# Altium schematic symbol library DaughterBoard.SchLib: 84 symbols (part 1 of 2)
Pins are listed as number, name and electrical type; pins without a type are passive.

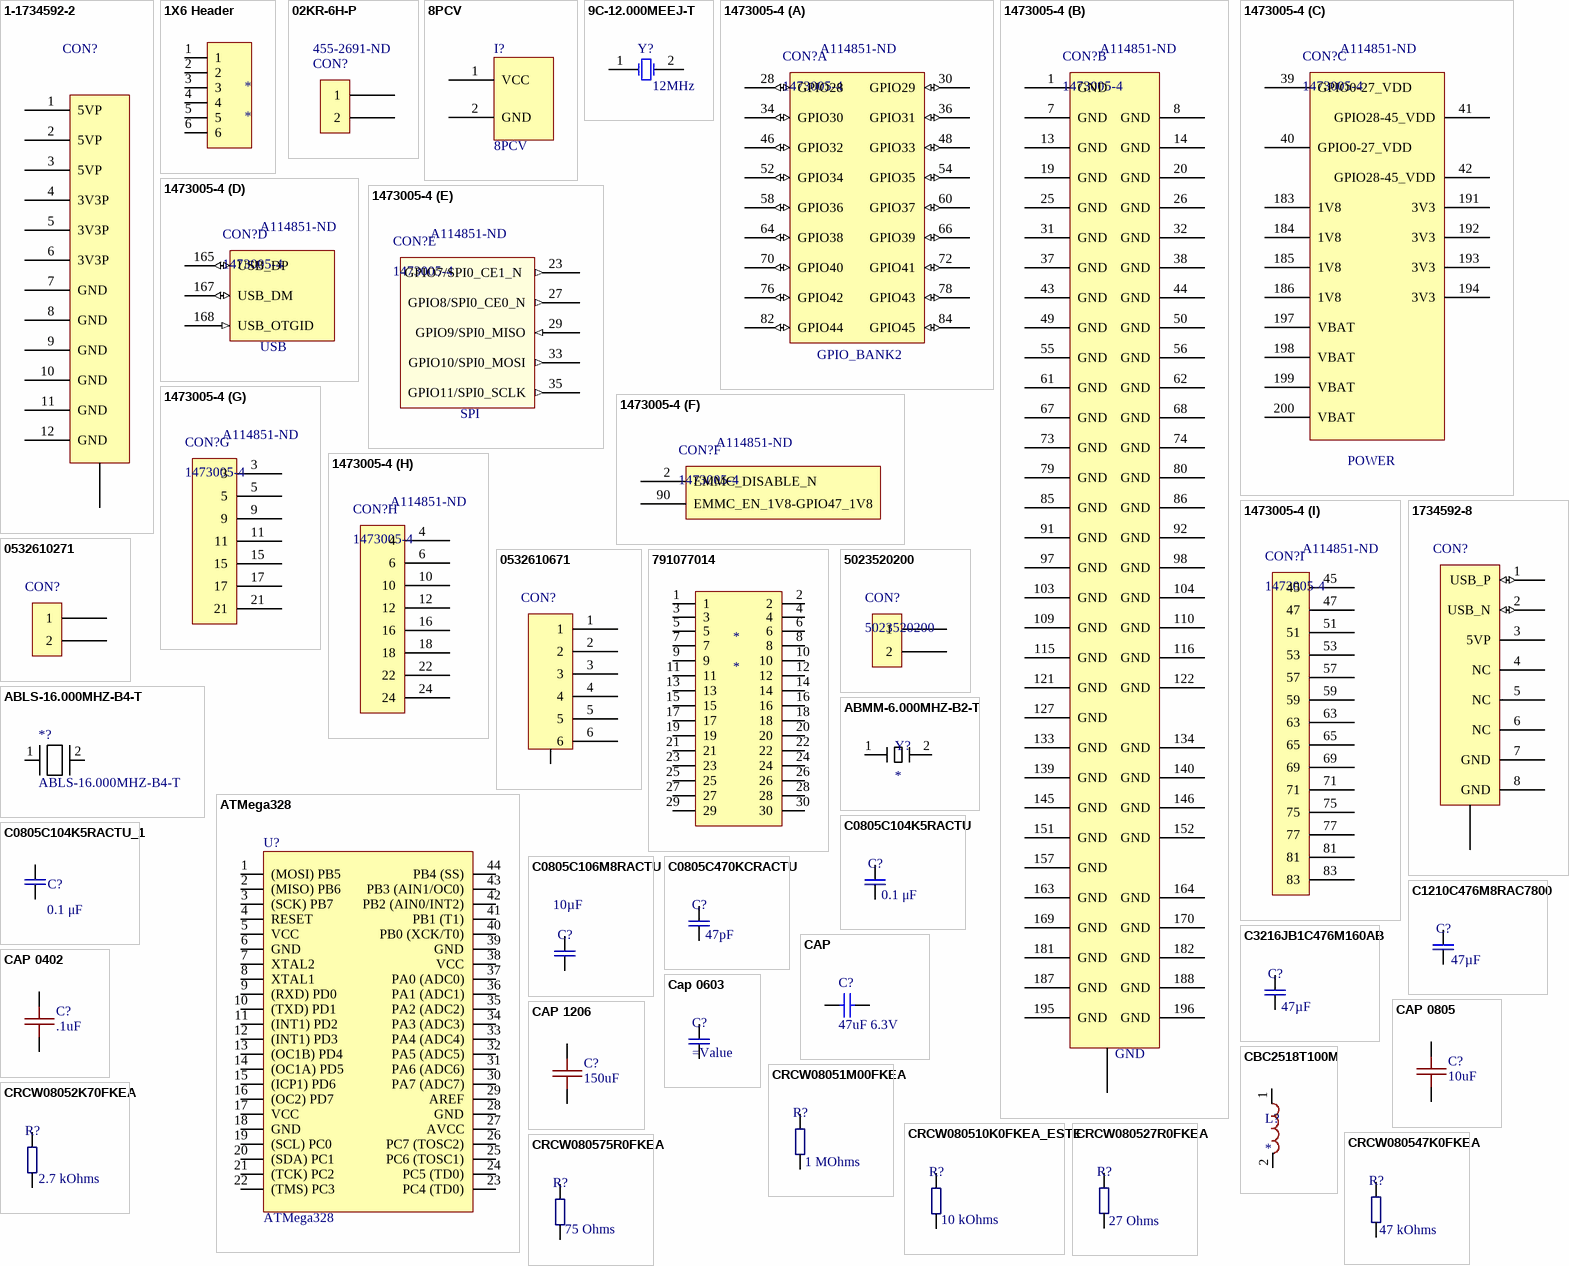
[diagram p0: symbols 1-1734592-2 to CRCW080575R0FKEA]

## 1-1734592-2
designator CON?, comment el connector no está en la lista de suppliers en cantidades unitarias pero Digikey lo tiene  (value not drawn)
Power connector; Supplier Part Number 1: ​A100283CT-ND; Supplier 1: Digikey
footprint 1-1734592-2 (FPC-style ribbon connector)
pins: 1 5VP (power), 2 5VP (power), 3 5VP (power), 4 3V3P (power), 5 3V3P (power), 6 3V3P (power), 7 GND (power), 8 GND (power), 9 GND (power), 10 GND (power), 11 GND (power), 12 GND (power), GND (power)

## 1X6 Header
designator *
footprint 1X6 HEADER
pins: 1, 2, 3, 4, 5, 6

## 02KR-6H-P
designator CON?  Supplier Part Number 1: 455-2691-ND
2 Position Rectangular Socket Connector IDC Tin 26 AWG; Manufacturer: JST; Manufacturer Part Number: 02KR-6H-P; Number of Positions: 2; Pitch: 0.079" (2.00mm); Wire Type: Discrete; Wire Gauge: 26 AWG; Dynamic Catalog: KR Series; Mating Products: 455-2872-6-ND / - CONN HEADER PH TOP 2POS 2MM SMD / 455-2872-1-ND / - CONN HEADER PH TOP 2POS 2MM SMD / B2B-PH-SM4-K-TBT(LF)(SN)(P)-ND / - CONN HEADER PH TOP 2POS 2MM SMD / 455-2872-2-ND / - CONN HEADER PH TOP 2POS 2MM SMD / 455-1749-6-ND / - CONN HEADER PH SIDE 2POS 2MM SMD / 455-1734-6-ND / - CONN HEADER PH TOP 2POS 2MM SMD / 455-1749-1-ND / - CONN HEADER PH SIDE 2POS 2MM SMD / 455-1734-1-ND / - CONN HEADER PH TOP 2POS 2MM SMD / 455-1749-2-ND / - CONN HEADER PH SIDE 2POS 2MM SMD / 455-1734-2-ND / - CONN HEADER P; Other Names: 455-2691; Supplier 1: Digi-Key; Stock 1: 28045; Pricing 1: 1=0.27, 10=0.252, 25=0.216, 50=0.1838, 100=0.1765, 250=0.1585, 500=0.1513, 1000=0.1261, 2500=0.1153 (USD); Standard Package: 2,000; Category: Connectors, Interconnects; Family: Rectangular Connectors - Free Hanging, Panel Mount; Series: KR; Connector Type: Socket; Contact Type: Female Socket; Number of Rows: 1; Mounting Type: Free Hanging (In-Line); Cable Termination: IDC; Contact Finish: Tin; Color: Gray; Packaging: Bulk; ComponentLink1URL: https://datasheet.ciiva.com/701/ekr-701834.pdf; ComponentLink1Description: https://datasheet.ciiva.com/701/ekr-701834.pdf; ComponentLink2URL: https://datasheet.ciiva.com/16300/02kr-6h-p-16300186.pdf; ComponentLink2Description: https://datasheet.ciiva.com/16300/02kr-6h-p-16300186.pdf
footprint 02KR-6H-P (2 Position Rectangular Socket Connector IDC Tin 26 AWG)
pins: 1, 2

## 8PCV
designator I?
footprint 8PCV-02-006
pins: 1 VCC, 2 GND

## 9C-12.000MEEJ-T
designator Y?, comment Frequency: 12MHz  (hidden comment: 12MHz XTAL)
Surface mount 12MHz +/-10ppm Crystal Oscillator; Manufacturer: TXC; Manufacturer Part Number: 9C-12.000MEEJ-T; Catalog Drawings: 9C Series Side 1 / 9C Series Side 2 / 9C Series Bottom; Frequency Stability: ±10ppm; Load Capacitance: 18pF; ESR (Equivalent Series Resistance): 40 Ohm; Operating Mode: Fundamental; Dynamic Catalog: 9C Series; Other Names: 887-1268-2; Published: 8-Jun-2000; LatestRevisionDate: 17-Jul-2002; LatestRevisionNote: Re-released for DXP Platform.; PackageReference: R38; Publisher: Altium Limited; PackageDescription: Crystal, Thru-Hole; 2 Leads; Body 3.1 x 8.2 mm (Dia.xH); Supplier 1: Digikey; Stock 1: 2052; Pricing 1: 1=0.59, 10=0.495, 50=0.4456, 100=0.396, 500=0.3762 (USD); Standard Package: 1,000; Category: Crystals and Oscillators; Family: Crystals; Series: 9C; Type: MHz Crystal; Frequency Tolerance: ±10ppm; Operating Temperature: -20°C ~ 70°C; Mounting Type: Surface Mount; Package / Case: HC49/US; Size / Dimension: 0.449" L x 0.189" W (11.40mm x 4.80mm); Height: 0.161" (4.10mm); Packaging: Tape & Reel (TR); ComponentLink1URL: https://datasheet.ciiva.com/4945/9c-13007-4945829.pdf; ComponentLink1Description: https://datasheet.ciiva.com/4945/9c-13007-4945829.pdf; ComponentLink2URL: https://datasheet.ciiva.com/22698/1497895-22698780.pdf; ComponentLink2Description: https://datasheet.ciiva.com/22698/1497895-22698780.pdf; ComponentLink3URL: https://datasheet.ciiva.com/857/9c-accuracy-857453.pdf; ComponentLink3Description: https://datasheet.ciiva.com/857/9c-accuracy-857453.pdf; ComponentLink4URL: https://datasheet.ciiva.com/857/9c-accuracy-857454.pdf; ComponentLink4Description: https://datasheet.ciiva.com/857/9c-accuracy-857454.pdf; ComponentLink5URL: https://datasheet.ciiva.com/1356/1794112-1356942.pdf; ComponentLink5Description: https://datasheet.ciiva.com/1356/1794112-1356942.pdf; ComponentLink6URL: https://datasheet.ciiva.com/857/9c-accuracy-857455.pdf; ComponentLink6Description: https://datasheet.ciiva.com/857/9c-accuracy-857455.pdf; Supplier Part Number 1: 887-1268-1-ND
footprint HC-49S SMD 9C Series
simulation model XTAL (Spice Subcircuit)
pins: 1 OSC1, 2 OSC2

## 1473005-4
designator CON?  Supplier Part Number 1: A114851-ND
Manufacturer: TE Connectivity (Tyco Electronics); Unit PriceUSD: AMP; Minimum Quantity: SODIMM; 3D Model: 1473005-4.pdf; Number of Positions: 200; Memory Type: DDR 2 SDRAM; Other Names: 1473005-4-ND / A114851; Supplier 1: Digikey; Manufacturer Part Number: 1473005-4; Stock 1: 1922; Pricing 1: 1=3.9, 10=3.744, 50=3.276, 100=3.12, 250=2.73, 500=2.652, 1000=2.262, 2500=2.106 (USD); Quantity Available: Tray; RoHS Information: 1473005-4 Statement of Compliance / RoHS 2 Statement; Standard Package: 20; Category: Connectors, Interconnects; Family: Memory Connectors - Inline Module Sockets; Series: AMP; Packaging: Tray; Connector Style: SODIMM; Mounting Type: Surface Mount, Right Angle; Features: Board Guide, Latches; Mounting Feature: Standard; Contact Finish: Gold; Contact Finish Thickness: Flash; ComponentLink1URL: https://datasheet.ciiva.com/682/eng-cd-1473005-j2-682720.pdf; ComponentLink1Description: https://datasheet.ciiva.com/682/eng-cd-1473005-j2-682720.pdf; ComponentLink2URL: https://datasheet.ciiva.com/15171/getdatasheetpartid-99150-15171488.pdf; ComponentLink2Description: https://datasheet.ciiva.com/15171/getdatasheetpartid-99150-15171488.pdf; ComponentLink3URL: https://datasheet.ciiva.com/1105/582309-1105221.pdf; ComponentLink3Description: https://datasheet.ciiva.com/1105/582309-1105221.pdf; ComponentLink4URL: https://datasheet.ciiva.com/682/eng-cd-1473005-j2-682726.pdf; ComponentLink4Description: https://datasheet.ciiva.com/682/eng-cd-1473005-j2-682726.pdf; ComponentLink5URL: https://datasheet.ciiva.com/14156/04821302-14156311.pdf; ComponentLink5Description: https://datasheet.ciiva.com/14156/04821302-14156311.pdf; ComponentLink6URL: https://datasheet.ciiva.com/3136/eng-cd-1473005-j-3136060.pdf; ComponentLink6Description: https://datasheet.ciiva.com/3136/eng-cd-1473005-j-3136060.pdf; ComponentLink7URL: https://datasheet.ciiva.com/16380/eng-cd-1473005-j-16380909.pdf; ComponentLink7Description: https://datasheet.ciiva.com/16380/eng-cd-1473005-j-16380909.pdf; ComponentLink8URL: https://datasheet.ciiva.com/16651/eng-cd-1473005-j-16651646.pdf; ComponentLink8Description: https://datasheet.ciiva.com/16651/eng-cd-1473005-j-16651646.pdf
footprint SODIMM SOCKET .6 PITCH 200 POS RIGHT ANGLE
part A pins: 28 GPIO28 (io), 30 GPIO29 (io), 34 GPIO30 (io), 36 GPIO31 (io), 46 GPIO32 (io), 48 GPIO33 (io), 52 GPIO34 (io), 54 GPIO35 (io), 58 GPIO36 (io), 60 GPIO37 (io), 64 GPIO38 (io), 66 GPIO39 (io), 70 GPIO40 (io), 72 GPIO41 (io), 76 GPIO42 (io), 78 GPIO43 (io), 82 GPIO44 (io), 84 GPIO45 (io)
part B pins: 1 GND (power), 7 GND (power), 8 GND (power), 13 GND (power), 14 GND (power), 19 GND (power), 20 GND (power), 25 GND (power), 26 GND (power), 31 GND (power), 32 GND (power), 37 GND (power), 38 GND (power), 43 GND (power), 44 GND (power), 49 GND (power), 50 GND (power), 55 GND (power), 56 GND (power), 61 GND (power), 62 GND (power), 67 GND (power), 68 GND (power), 73 GND (power), 74 GND (power), 79 GND (power), 80 GND (power), 85 GND (power), 86 GND (power), 91 GND (power), 92 GND (power), 97 GND (power), 98 GND (power), 103 GND (power), 104 GND (power), 109 GND (power), 110 GND (power), 115 GND (power), 116 GND (power), 121 GND (power), 122 GND (power), 127 GND (power), 133 GND (power), 134 GND (power), 139 GND (power), 140 GND (power), 145 GND (power), 146 GND (power), 151 GND (power), 152 GND (power), 157 GND (power), 163 GND (power), 164 GND (power), 169 GND (power), 170 GND (power), 181 GND (power), 182 GND (power), 187 GND (power), 188 GND (power), 195 GND (power), 196 GND (power), GND (power)
part C pins: 39 GPIO0-27_VDD (power), 40 GPIO0-27_VDD (power), 41 GPIO28-45_VDD (power), 42 GPIO28-45_VDD (power), 183 1V8 (power), 184 1V8 (power), 185 1V8 (power), 186 1V8 (power), 191 3V3 (power), 192 3V3 (power), 193 3V3 (power), 194 3V3 (power), 197 VBAT, 198 VBAT, 199 VBAT, 200 VBAT
part D pins: 165 USB_DP (io), 167 USB_DM (io), 168 USB_OTGID (in)
part E pins: 23 GPIO7/SPI0_CE1_N  (out), 27 GPIO8/SPI0_CE0_N (out), 29 GPIO9/SPI0_MISO (in), 33 GPIO10/SPI0_MOSI (out), 35 GPIO11/SPI0_SCLK (out)
part F pins: 2 EMMC_DISABLE_N, 90 EMMC_EN_1V8-GPIO47_1V8
part G pins: 3, 5, 9, 11, 15, 17, 21
part H pins: 4, 6, 10, 12, 16, 18, 22, 24
part I pins: 45, 47, 51, 53, 57, 59, 63, 65, 69, 71, 75, 77, 81, 83
part A text: GPIO_BANK2
part C text: POWER
part D text: USB
part E text: SPI

## 1734592-8
designator CON?
Supplier Part Number 1: ​A100281CT-ND; Supplier 1: Digikey
footprint 1734592-8
pins: 1 USB_P (io), 2 USB_N (io), 3 5VP (power), 4 NC, 5 NC, 6 NC, 7 GND (power), 8 GND (power), GND (power)

## 0532610271
designator CON?
2 Positions Header Connector 0.049" (1.25mm) Surface Mount, Right Angle Tin; Manufacturer: Molex; Manufacturer Part Number: 0532610271; Number of Contacts: 2; Gender: HDR; Supplier 1: Digi-Key; Stock 1: 0; Pricing 1: 1=0.93, 10=0.819, 100=0.7066, 500=0.5782 (USD); Type: Shrouded Header; Pitch: 1.25 mm; Number of Rows: 1; Contact Plating: Tin Over Nickel; Termination Method: Solder; ComponentLink1URL: https://datasheet.ciiva.com/6813/532610671-sd-6813952.pdf; ComponentLink1Description: https://datasheet.ciiva.com/6813/532610671-sd-6813952.pdf; ComponentLink2URL: https://datasheet.ciiva.com/3117/0532610271-pcb-headers-3117602.pdf; ComponentLink2Description: https://datasheet.ciiva.com/3117/0532610271-pcb-headers-3117602.pdf; ComponentLink3URL: https://datasheet.ciiva.com/6832/532610271-sd-6832412.pdf; ComponentLink3Description: https://datasheet.ciiva.com/6832/532610271-sd-6832412.pdf; ComponentLink4URL: https://datasheet.ciiva.com/6832/532610271-sd-6832431.pdf; ComponentLink4Description: https://datasheet.ciiva.com/6832/532610271-sd-6832431.pdf; ComponentLink5URL: https://datasheet.ciiva.com/16498/0532610271-pcb-headers-16498111.pdf; ComponentLink5Description: https://datasheet.ciiva.com/16498/0532610271-pcb-headers-16498111.pdf; Supplier Part Number 1: WM7620CT-ND
footprint 0532610271
pins: 1, 2

## 0532610671
designator CON?  (value not drawn)
CONN HEADER 6POS 1.25MM R/A SMD; Manufacturer: Molex; Manufacturer Part Number: 0532610671; Number of Contacts: 6; Gender: HDR; Supplier 1: Digi-Key; Stock 1: 23842; Pricing 1: 1=1.37, 10=1.239, 100=1.0624, 500=0.8853 (USD); Packaging: Cut Tape; Type: Shrouded Header; Pitch: 1.25 mm; Number of Rows: 1; Contact Plating: Tin Over Nickel; Termination Method: Solder; Category: Connector Headers and PCB Receptacles; ComponentLink1URL: https://datasheet.ciiva.com/6813/532610671-sd-6813952.pdf; ComponentLink1Description: https://datasheet.ciiva.com/6813/532610671-sd-6813952.pdf; ComponentLink2URL: https://datasheet.ciiva.com/3933/353410532610671-pcb-headers-3933365.pdf; ComponentLink2Description: https://datasheet.ciiva.com/3933/353410532610671-pcb-headers-3933365.pdf; ComponentLink3URL: https://datasheet.ciiva.com/6813/532610671-sd-6813942.pdf; ComponentLink3Description: https://datasheet.ciiva.com/6813/532610671-sd-6813942.pdf; ComponentLink4URL: https://datasheet.ciiva.com/3117/0532610671-pcb-headers-3117609.pdf; ComponentLink4Description: https://datasheet.ciiva.com/3117/0532610671-pcb-headers-3117609.pdf; ComponentLink5URL: https://datasheet.ciiva.com/3117/0532610671-pcb-headers-3117610.pdf; ComponentLink5Description: https://datasheet.ciiva.com/3117/0532610671-pcb-headers-3117610.pdf; ComponentLink6URL: https://datasheet.ciiva.com/6813/532610671-sd-6813947.pdf; ComponentLink6Description: https://datasheet.ciiva.com/6813/532610671-sd-6813947.pdf; ComponentLink7URL: https://datasheet.ciiva.com/48768/0532610671-pcb-headers-48768267.pdf; ComponentLink7Description: https://datasheet.ciiva.com/48768/0532610671-pcb-headers-48768267.pdf; Supplier Part Number 1: WM7624CT-ND
footprint 0532610671
pins: 1, 2, 3, 4, 5, 6, GND

## 791077014
designator *
footprint 791077014
pins: 1, 2, 3, 4, 5, 6, 7, 8, 9, 10, 11, 12, 13, 14, 15, 16, 17, 18, 19, 20, 21, 22, 23, 24, 25, 26, 27, 28, 29, 30

## 5023520200
designator CON?
2 Positions Header Connector 0.079" (2.00mm) Surface Mount, Right Angle Tin; Supplier 1: Digi-Key; Supplier Part Number 1: WM7169CT-ND
footprint 5023520200
pins: 1, 2

## ABLS-16.000MHZ-B4-T
designator *?
footprint ABLS-16MHz
pins: 1, 2

## ABMM-6.000MHZ-B2-T
designator Y?
pins: 1, 2

## ATMega328
designator U?
footprint Atmega32-16AU
pins: 1 (MOSI) PB5, 2 (MISO) PB6, 3 (SCK) PB7, 4 RESET, 5 VCC, 6 GND, 7 XTAL2, 8 XTAL1, 9 (RXD) PD0, 10 (TXD) PD1, 11 (INT1) PD2, 12 (INT1) PD3, 13 (OC1B) PD4, 14 (OC1A) PD5, 15 (ICP1) PD6, 16 (OC2) PD7, 17 VCC, 18 GND, 19 (SCL) PC0, 20 (SDA) PC1, 21 (TCK) PC2, 22 (TMS) PC3, 23 PC4 (TD0), 24 PC5 (TD0), 25 PC6 (TOSC1), 26 PC7 (TOSC2), 27 AVCC, 28 GND, 29 AREF, 30 PA7 (ADC7), 31 PA6 (ADC6), 32 PA5 (ADC5), 33 PA4 (ADC4), 34 PA3 (ADC3), 35 PA2 (ADC2), 36 PA1 (ADC1), 37 PA0 (ADC0), 38 VCC, 39 GND, 40 PB0 (XCK/T0), 41 PB1 (T1), 42 PB2 (AIN0/INT2), 43 PB3 (AIN1/OC0), 44 PB4 (SS)

## C0805C104K5RACTU
designator C?  Capacitance: 0.1 μF
Manufacturer: Kemet; Manufacturer Part Number: C0805C104K5RAC-TU; Brand/Series: C Series; Dielectric Characteristic: X7R; Material, Element: Ceramic; Tolerance: -10, +10 %; Voltage, Rating: 50 VDC; Supplier 1: Digikey; Stock 1: 2895664; Pricing 1: 1=0.1, 10=0.053, 25=0.0388, 50=0.029, 100=0.0237, 250=0.0198, 500=0.0169, 1000=0.0133 (USD); Case Size: 0805 (2012 mm); Dimensions: 0.079" x 0.049" (2 x 1.25mm) LxW; Mounting Type: PCB; Packaging: Cut Tape; Termination: SMD; ComponentLink1URL: https://datasheet.ciiva.com/14589/70095383-14589048.pdf; ComponentLink1Description: https://datasheet.ciiva.com/14589/70095383-14589048.pdf; ComponentLink2URL: https://datasheet.ciiva.com/28682/1851736-28682232.pdf; ComponentLink2Description: https://datasheet.ciiva.com/28682/1851736-28682232.pdf; ComponentLink3URL: https://datasheet.ciiva.com/7842/1851736-7842539.pdf; ComponentLink3Description: https://datasheet.ciiva.com/7842/1851736-7842539.pdf; ComponentLink4URL: https://datasheet.ciiva.com/32431/slceramic-chip-condensers-e-32431755.pdf; ComponentLink4Description: https://datasheet.ciiva.com/32431/slceramic-chip-condensers-e-32431755.pdf; ComponentLink5URL: https://datasheet.ciiva.com/18410/70095383-18410815.pdf; ComponentLink5Description: https://datasheet.ciiva.com/18410/70095383-18410815.pdf; Supplier Part Number 1: 399-1170-1-ND
footprint 0805_X7R_KEMET
pins: 1, 2

## C0805C104K5RACTU_1
designator C?, comment Capacitance: 0.1 μF  (hidden comment: C0805C104K5RACTU)
Manufacturer: Kemet; Manufacturer Part Number: C0805C104K5RAC-TU; Brand/Series: C Series; Dielectric Characteristic: X7R; Material, Element: Ceramic; Tolerance: -10, +10 %; Voltage, Rating: 50 VDC; Supplier 1: Digikey; Stock 1: 2895664; Pricing 1: 1=0.1, 10=0.053, 25=0.0388, 50=0.029, 100=0.0237, 250=0.0198, 500=0.0169, 1000=0.0133 (USD); Case Size: 0805 (2012 mm); Dimensions: 0.079" x 0.049" (2 x 1.25mm) LxW; Mounting Type: PCB; Packaging: Cut Tape; Termination: SMD; ComponentLink1URL: https://datasheet.ciiva.com/14589/70095383-14589048.pdf; ComponentLink1Description: https://datasheet.ciiva.com/14589/70095383-14589048.pdf; ComponentLink2URL: https://datasheet.ciiva.com/28682/1851736-28682232.pdf; ComponentLink2Description: https://datasheet.ciiva.com/28682/1851736-28682232.pdf; ComponentLink3URL: https://datasheet.ciiva.com/7842/1851736-7842539.pdf; ComponentLink3Description: https://datasheet.ciiva.com/7842/1851736-7842539.pdf; ComponentLink4URL: https://datasheet.ciiva.com/32431/slceramic-chip-condensers-e-32431755.pdf; ComponentLink4Description: https://datasheet.ciiva.com/32431/slceramic-chip-condensers-e-32431755.pdf; ComponentLink5URL: https://datasheet.ciiva.com/18410/70095383-18410815.pdf; ComponentLink5Description: https://datasheet.ciiva.com/18410/70095383-18410815.pdf; Supplier Part Number 1: 399-1170-1-ND
footprint 0805_X7R_KEMET
pins: 1, 2

## C0805C106M8RACTU
designator C?  Capacitance: 10µF  (hidden comment: C0805C106M8RACTU)
Manufacturer: Kemet; Capacitance Tolerance: ± 20%; Capacitor Case Style: 0805 [2012 Metric]; Dielectric Characteristic: X7R; Product Range: KEMET - C Series; SVHC: No SVHC (16-Jun-2014); Voltage Rating: 10V; Supplier 1: Digikey; Manufacturer Part Number: C0805C106M8RACTU; Stock 1: 17950; Pricing 1: 1=0.52, 10=0.362, 25=0.2972, 50=0.2536, 100=0.2174, 250=0.1811, 500=0.163, 1000=0.1377 (USD); Ceramic Capacitor Case: 0805 [2012 Metric]; MSL: MSL 1 - Unlimited; Operating Temperature Max: 125°C; Operating Temperature Min: -55°C; Packaging: Tape & Reel; ComponentLink1URL: https://datasheet.ciiva.com/5408/kem-c1002-x7r-smd-5408794.pdf; ComponentLink1Description: https://datasheet.ciiva.com/5408/kem-c1002-x7r-smd-5408794.pdf; Supplier Part Number 1: 399-7413-1-ND
footprint 0805_X7R_KEMET
pins: 1, 2

## C0805C470KCRACTU
designator C?  Capacitance: 47pF
Manufacturer: Kemet; Manufacturer Part Number: C0805C470KCRACTU; Product Training Modules: Capacitor Basics- Typical Uses for Capacitors; Tolerance: ±10%; Voltage - Rated: 500V; Temperature Coefficient: X7R; Online Catalog: X7R Dielectric High Voltage; Other Names: 399-7158-6; Supplier 1: Digikey; Stock 1: 5972; Pricing 1: 1=0.38, 10=0.266, 25=0.218, 50=0.186, 100=0.1594, 250=0.1328, 500=0.1195, 1000=0.101 (USD); Standard Package: 1; Category: Capacitors; Family: Ceramic Capacitors; Series: C; Packaging: Digi-Reel®; Mounting Type: Surface Mount, MLCC; Operating Temperature: -55°C ~ 125°C; Applications: SMPS Filtering; Ratings: -; Package / Case: 0805 (2012 Metric); Size / Dimension: 0.079" L x 0.049" W (2.00mm x 1.25mm); Height - Seated (Max): -; Thickness (Max): 0.055" (1.40mm); Lead Spacing: -; Features: High Voltage; Lead Style: -; ComponentLink1URL: http://www.kemet.com/docfinder?Partnumber=C0805C470KCRACTU; ComponentLink1Description: http://www.kemet.com/docfinder?Partnumber=C0805C470KCRACTU; Supplier Part Number 1: 399-7158-1-ND
footprint 0805_X7R_KEMET
pins: 1, 2

## C1210C476M8RAC7800
designator C?  Capacitance: 47µF
Manufacturer: Kemet; Manufacturer Part Number: C1210C476M8RAC7800; Tolerance: ±20%; Voltage - Rated: 10V; Temperature Coefficient: X7R; Supplier 1: Digikey; Stock 1: 9455; Pricing 1: 1=1.47, 10=1.159, 25=1.0628, 50=1.0046, 100=0.8694, 250=0.7728, 500=0.6569 (USD); Category: Capacitors; Family: Ceramic Capacitors; Series: C; Packaging: Tape &amp; Reel (TR); Mounting Type: Surface Mount, MLCC; Operating Temperature: -55°C ~ 125°C; Applications: General Purpose; Ratings: -; Package / Case: 1210 (3225 Metric); Size / Dimension: 0.126" L x 0.098" W (3.20mm x 2.50mm); Height - Seated (Max): -; Thickness (Max): 0.110" (2.80mm); Lead Spacing: -; Features: -; Lead Style: -; ComponentLink1URL: http://www.alliedelec.com/m/d/51f554c3dd800f51434b811e71a34895.pdf; ComponentLink1Description: http://www.alliedelec.com/m/d/51f554c3dd800f51434b811e71a34895.pdf; Supplier Part Number 1: 399-12072-1-ND
footprint 1210_X7R_KEMET_above4.7uF
pins: 1, 2

## C3216JB1C476M160AB
designator C?  Capacitance: 47µF  (hidden comment: C3216JB1C476M160AB)
Manufacturer: TDK; Product Training Modules: C Series General Applications SEAT, CCV, and TVCL Design Tools Guide to Replacing an Electrolytic Capacitor with an MLCC; Featured Product: CH and JB Temperature Coefficient Capacitors; EDA / CAD Models: Download from Accelerated Designs; Tolerance: ±20%; Voltage - Rated: 16V; Temperature Coefficient: JB; Online Catalog: C Series, General Purpose; Other Names: 445-11695-1; Supplier 1: Digikey; Manufacturer Part Number: C3216JB1C476M160AB; Stock 1: 22642; Pricing 1: 1=1.01, 10=0.797, 25=0.7304, 50=0.6906, 100=0.5977, 250=0.5313, 500=0.4516, 1000=0.3985 (USD); RoHS Information: RoHS Certificate-MLCC; Standard Package: 1; Family: Ceramic Capacitors; Series: C; Packaging: Cut Tape (CT); Mounting Type: Surface Mount, MLCC; Operating Temperature: -25°C ~ 85°C; Applications: General Purpose; Package / Case: 1206 (3216 Metric); Size / Dimension: 0.126" L x 0.063" W (3.20mm x 1.60mm); Thickness (Max): 0.069" (1.75mm); ComponentLink1Description: http://www.mouser.com/ds/2/400/lcc_commercial_general_en-837201.pdf; ComponentLink2URL: http://www.tdk.com/pdf/TDKMLCCCapRange.pdf; ComponentLink2Description: http://www.tdk.com/pdf/TDKMLCCCapRange.pdf; ComponentLink3URL: http://product.tdk.com/en/catalog/datasheets/mlcc_commercial_general_en.pdf; ComponentLink3Description: http://product.tdk.com/en/catalog/datasheets/mlcc_commercial_general_en.pdf; Supplier Part Number 1: 445-11695-1-ND; Category: Capacitors; ComponentLink1URL: http://www.mouser.com/ds/2/400/lcc_commercial_general_en-837201.pdf
footprint C3216JB1C476M160AB
pins: 1, 2

## CAP
designator C?, comment 47uF 6.3V
GRM21BR60J476ME15L; Case-EIA: 0805; Case-Metric: 2012; Tolerance: Â±10%; Value: 4.7uF; Technology: SMT; Max Thickness: 1.45 mm; Rated Voltage: 6.3 V
footprint CAPC0805(2012)145_M (Chip Capacitor, Body 2.0x1.2mm, Height 1.45mm, IPC Low Density)
footprint CAPC0805(2012)145_N (Chip Capacitor, Body 2.0x1.2mm, Height 1.45mm, IPC Medium Density)
footprint CAPC0805(2012)145_L (Chip Capacitor, Body 2.0x1.2mm, Height 1.45mm, IPC High Density)
pins: 1, 2
1 alternate drawing of the same symbol

## CAP 0402
designator C?, comment .1uF
402 Capacitor
footprint 0402 B (SMD 0402 blue)
pins: 1, 2

## Cap 0603
designator C?
footprint 0603
pins: 1, 2

## CAP 0805
designator C?, comment 10uF
805 Capacitor
footprint 0805 B (SMD 0805 blue)
pins: 1, 2

## CAP 1206
designator C?, comment 150uF
1206 Capacitor
footprint 1206 B (SMD 1206)
pins: 1, 2

## CBC2518T100M
designator L?
footprint 1007
pins: 1, 2

## CRCW08051M00FKEA
designator R?  Resistance: 1 MOhms  (hidden comment: CRCW08051M00FKEA)
Manufacturer: Vishay; Brand: Vishay / Dale; Power Rating: 125 mW (1/8 W); Tolerance: 1 %; Temperature Coefficient: 100 PPM / K; Voltage Rating: 150 V; Case Height: 0.45 mm; Case Length: 2 mm; Case Width: 1.25 mm; Unit Weight: 0.000194 oz; Supplier 1: Digikey; Manufacturer Part Number: CRCW08051M00FKEA; Stock 1: 17398; Pricing 1: 1=0.1, 10=0.042, 25=0.0304, 50=0.0232, 100=0.017, 250=0.013, 500=0.0104, 1000=0.0077 (USD); Product Category: Thick Film Resistors - SMD; RoHS: Details; Case Code - in: 0805; Case Code - mm: 2012; Operating Temperature Range: - 55 C to + 155 C; Package / Case: 0805 (2012 metric); Packaging: Reel; Product: Thick Film Resistors SMD; Series: CRCW; Factory Pack Quantity: 5000; ComponentLink1URL: https://datasheet.ciiva.com/7841/1720486-7841845.pdf; ComponentLink1Description: https://datasheet.ciiva.com/7841/1720486-7841845.pdf; ComponentLink2URL: https://datasheet.ciiva.com/16380/dcrcwe3-16380086.pdf; ComponentLink2Description: https://datasheet.ciiva.com/16380/dcrcwe3-16380086.pdf; ComponentLink3URL: https://datasheet.ciiva.com/11810/0900766b80d98b26-11810665.pdf; ComponentLink3Description: https://datasheet.ciiva.com/11810/0900766b80d98b26-11810665.pdf; ComponentLink4URL: https://datasheet.ciiva.com/16514/dcrcwe3-16514634.pdf; ComponentLink4Description: https://datasheet.ciiva.com/16514/dcrcwe3-16514634.pdf; ComponentLink5URL: https://datasheet.ciiva.com/16721/70201119-16721483.pdf; ComponentLink5Description: https://datasheet.ciiva.com/16721/70201119-16721483.pdf; ComponentLink6URL: https://datasheet.ciiva.com/7841/1697337-7841645.pdf; ComponentLink6Description: https://datasheet.ciiva.com/7841/1697337-7841645.pdf; Supplier Part Number 1: 541-1.00MCCT-ND
footprint CRCW0805_VISHAY
pins: 1, 2

## CRCW08052K70FKEA
designator R?  Resistance: 2.7 kOhms  (hidden comment: CRCW08052K70FKEA)
Manufacturer: Vishay; Brand: Vishay / Dale; Power Rating: 125 mW (1/8 W); Tolerance: 1 %; Temperature Coefficient: 100 PPM / K; Voltage Rating: 150 V; Case Height: 0.45 mm; Case Length: 2 mm; Case Width: 1.25 mm; Unit Weight: 0.000194 oz; Supplier 1: Digikey; Manufacturer Part Number: CRCW08052K70FKEA; Stock 1: 1283; Pricing 1: 1=0.1, 10=0.042, 25=0.0304, 50=0.0232, 100=0.017, 250=0.013, 500=0.0104, 1000=0.0077 (USD); Product Category: Thick Film Resistors - SMD; RoHS: Details; Case Code - in: 0805; Case Code - mm: 2012; Operating Temperature Range: - 55 C to + 155 C; Package / Case: 0805 (2012 metric); Packaging: Reel; Product: Thick Film Resistors SMD; Series: CRCW; Factory Pack Quantity: 5000; ComponentLink1URL: https://datasheet.ciiva.com/3258/dcrcwe3-3258453.pdf; ComponentLink1Description: https://datasheet.ciiva.com/3258/dcrcwe3-3258453.pdf; ComponentLink2URL: https://datasheet.ciiva.com/16764/70201119-16764422.pdf; ComponentLink2Description: https://datasheet.ciiva.com/16764/70201119-16764422.pdf; ComponentLink3URL: https://datasheet.ciiva.com/5543/dcrcwe3-109170-5543191.pdf; ComponentLink3Description: https://datasheet.ciiva.com/5543/dcrcwe3-109170-5543191.pdf; ComponentLink4URL: https://datasheet.ciiva.com/7841/1697337-7841655.pdf; ComponentLink4Description: https://datasheet.ciiva.com/7841/1697337-7841655.pdf; ComponentLink5URL: https://datasheet.ciiva.com/2467/dcrcwe3-2467242.pdf; ComponentLink5Description: https://datasheet.ciiva.com/2467/dcrcwe3-2467242.pdf; ComponentLink6URL: https://datasheet.ciiva.com/16435/dcrcwe3-16435914.pdf; ComponentLink6Description: https://datasheet.ciiva.com/16435/dcrcwe3-16435914.pdf; ComponentLink7URL: https://datasheet.ciiva.com/2467/dcrcwe3-2467243.pdf; ComponentLink7Description: https://datasheet.ciiva.com/2467/dcrcwe3-2467243.pdf; ComponentLink8URL: https://datasheet.ciiva.com/2467/dcrcwe3-2467244.pdf; ComponentLink8Description: https://datasheet.ciiva.com/2467/dcrcwe3-2467244.pdf; ComponentLink9URL: https://datasheet.ciiva.com/16853/dcrcwe3-16853084.pdf; ComponentLink9Description: https://datasheet.ciiva.com/16853/dcrcwe3-16853084.pdf; ComponentLink10URL: https://datasheet.ciiva.com/11809/0900766b80d98b26-11809102.pdf; ComponentLink10Description: https://datasheet.ciiva.com/11809/0900766b80d98b26-11809102.pdf; ComponentLink11URL: https://datasheet.ciiva.com/7841/1697337-7841887.pdf; ComponentLink11Description: https://datasheet.ciiva.com/7841/1697337-7841887.pdf; Supplier Part Number 1: 541-2.70KCCT-ND
footprint CRCW0805_VISHAY
pins: 1, 2

## CRCW080510K0FKEA_ESTE
designator R?  Resistance: 10 kOhms  (hidden comment: CRCW080510K0FKEA_ESTE)
Manufacturer: Vishay; Brand: Vishay / Dale; Power Rating: 125 mW (1/8 W); Tolerance: 1 %; Temperature Coefficient: 100 PPM / K; Voltage Rating: 150 V; Case Height: 0.45 mm; Case Length: 2 mm; Case Width: 1.25 mm; Unit Weight: 0.000194 oz; Supplier 1: Digikey; Manufacturer Part Number: CRCW080510K0FKEA; Stock 1: 0; Pricing 1: 1=0.1, 10=0.042, 25=0.0304, 50=0.0232, 100=0.017, 250=0.013, 500=0.0104, 1000=0.0077 (USD); Product Category: Thick Film Resistors - SMD; RoHS: Details; Case Code - in: 0805; Case Code - mm: 2012; Operating Temperature Range: - 55 C to + 155 C; Package / Case: 0805 (2012 metric); Packaging: Reel; Product: Thick Film Resistors SMD; Series: CRCW; Factory Pack Quantity: 5000; ComponentLink1URL: https://datasheet.ciiva.com/5547/dcrcwe3-109170-5547559.pdf; ComponentLink1Description: https://datasheet.ciiva.com/5547/dcrcwe3-109170-5547559.pdf; ComponentLink2URL: https://datasheet.ciiva.com/11808/0900766b80d98b26-11808216.pdf; ComponentLink2Description: https://datasheet.ciiva.com/11808/0900766b80d98b26-11808216.pdf; ComponentLink3URL: https://datasheet.ciiva.com/16719/70201119-16719082.pdf; ComponentLink3Description: https://datasheet.ciiva.com/16719/70201119-16719082.pdf; ComponentLink4URL: https://datasheet.ciiva.com/16514/dcrcwe3-16514907.pdf; ComponentLink4Description: https://datasheet.ciiva.com/16514/dcrcwe3-16514907.pdf; ComponentLink5URL: https://datasheet.ciiva.com/16883/dcrcwe3-16883708.pdf; ComponentLink5Description: https://datasheet.ciiva.com/16883/dcrcwe3-16883708.pdf; ComponentLink6URL: https://datasheet.ciiva.com/8337/dcrcwe3-8337773.pdf; ComponentLink6Description: https://datasheet.ciiva.com/8337/dcrcwe3-8337773.pdf; ComponentLink7URL: https://datasheet.ciiva.com/16755/70201119-16755389.pdf; ComponentLink7Description: https://datasheet.ciiva.com/16755/70201119-16755389.pdf; ComponentLink8URL: https://datasheet.ciiva.com/46394/1720486-46394381.pdf; ComponentLink8Description: https://datasheet.ciiva.com/46394/1720486-46394381.pdf; ComponentLink9URL: https://datasheet.ciiva.com/8337/dcrcwe3-8337774.pdf; ComponentLink9Description: https://datasheet.ciiva.com/8337/dcrcwe3-8337774.pdf; ComponentLink10URL: https://datasheet.ciiva.com/16199/dcrcwe3-16199086.pdf; ComponentLink10Description: https://datasheet.ciiva.com/16199/dcrcwe3-16199086.pdf; Supplier Part Number 1: 541-10.0KCCT-ND
footprint CRCW0805_VISHAY
pins: 1, 2

## CRCW080527R0FKEA
designator R?  Resistance: 27 Ohms  (hidden comment: CRCW080527R0FKEA)
Manufacturer: Vishay; Brand: Vishay / Dale; Power Rating: 125 mW (1/8 W); Tolerance: 1 %; Temperature Coefficient: 100 PPM / K; Voltage Rating: 150 V; Case Height: 0.45 mm; Case Length: 2 mm; Case Width: 1.25 mm; Unit Weight: 0.000194 oz; Supplier 1: Digikey; Manufacturer Part Number: CRCW080527R0FKEA; Stock 1: 96; Pricing 1: 1=0.1, 10=0.042, 25=0.0304, 50=0.0232, 100=0.017, 250=0.013, 500=0.0104, 1000=0.0077 (USD); Product Category: Thick Film Resistors - SMD; RoHS: Details; Case Code - in: 0805; Case Code - mm: 2012; Operating Temperature Range: - 55 C to + 155 C; Package / Case: 0805 (2012 metric); Packaging: Reel; Product: Thick Film Resistors SMD; Series: CRCW; Factory Pack Quantity: 5000; ComponentLink1URL: https://datasheet.ciiva.com/7672/1697337-7672981.pdf; ComponentLink1Description: https://datasheet.ciiva.com/7672/1697337-7672981.pdf; ComponentLink2URL: https://datasheet.ciiva.com/16761/70201119-16761029.pdf; ComponentLink2Description: https://datasheet.ciiva.com/16761/70201119-16761029.pdf; ComponentLink3URL: https://datasheet.ciiva.com/2467/dcrcwe3-2467494.pdf; ComponentLink3Description: https://datasheet.ciiva.com/2467/dcrcwe3-2467494.pdf; ComponentLink4URL: https://datasheet.ciiva.com/7672/1697337-7672982.pdf; ComponentLink4Description: https://datasheet.ciiva.com/7672/1697337-7672982.pdf; ComponentLink5URL: https://datasheet.ciiva.com/22675/1847332-22675094.pdf; ComponentLink5Description: https://datasheet.ciiva.com/22675/1847332-22675094.pdf; ComponentLink6URL: https://datasheet.ciiva.com/2467/dcrcwe3-2467495.pdf; ComponentLink6Description: https://datasheet.ciiva.com/2467/dcrcwe3-2467495.pdf; ComponentLink7URL: https://datasheet.ciiva.com/2467/dcrcwe3-2467496.pdf; ComponentLink7Description: https://datasheet.ciiva.com/2467/dcrcwe3-2467496.pdf; ComponentLink8URL: https://datasheet.ciiva.com/5547/dcrcwe3-109170-5547145.pdf; ComponentLink8Description: https://datasheet.ciiva.com/5547/dcrcwe3-109170-5547145.pdf; ComponentLink9URL: https://datasheet.ciiva.com/16204/dcrcw-16204171.pdf; ComponentLink9Description: https://datasheet.ciiva.com/16204/dcrcw-16204171.pdf; ComponentLink10URL: https://datasheet.ciiva.com/26316/fld-crcw-e3-data-en-26316524.pdf; ComponentLink10Description: https://datasheet.ciiva.com/26316/fld-crcw-e3-data-en-26316524.pdf; ComponentLink11URL: https://datasheet.ciiva.com/11809/0900766b80d98b26-11809967.pdf; ComponentLink11Description: https://datasheet.ciiva.com/11809/0900766b80d98b26-11809967.pdf; ComponentLink12URL: https://datasheet.ciiva.com/22704/1697337-22704447.pdf; ComponentLink12Description: https://datasheet.ciiva.com/22704/1697337-22704447.pdf; Supplier Part Number 1: 541-27.0CCT-ND
footprint CRCW0805_VISHAY
pins: 1, 2

## CRCW080547K0FKEA
designator R?  Resistance: 47 kOhms  (hidden comment: CRCW080547K0FKEA)
Manufacturer: Vishay; Brand: Vishay / Dale; Tolerance: 1 %; Power Rating: 125 mW (1/8 W); Temperature Coefficient: 100 PPM / K; Voltage Rating: 150 V; Unit Weight: 0.000194 oz; Supplier 1: Digikey; Manufacturer Part Number: CRCW080547K0FKEA; Stock 1: 37370; Pricing 1: 1=0.1, 10=0.042, 25=0.0304, 50=0.0232, 100=0.017, 250=0.013, 500=0.0104, 1000=0.0077 (USD); Product Category: Thick Film Resistors - SMD; RoHS: Details; Case Code - in: 0805; Case Code - mm: 2012; Operating Temperature Range: - 55 C to + 155 C; Series: CRCW; Height: 0.45 mm; Length: 2 mm; Package / Case: 0805 (2012 metric); Packaging: Reel; Product: Thick Film Resistors SMD; Factory Pack Quantity: 5000; Termination Style: SMD/SMT; Width: 1.25 mm; ComponentLink1URL: https://datasheet.ciiva.com/16723/70201119-16723909.pdf; ComponentLink1Description: https://datasheet.ciiva.com/16723/70201119-16723909.pdf; ComponentLink2URL: https://datasheet.ciiva.com/2514/dcrcwe3-2514311.pdf; ComponentLink2Description: https://datasheet.ciiva.com/2514/dcrcwe3-2514311.pdf; ComponentLink3URL: https://datasheet.ciiva.com/2514/dcrcwe3-2514312.pdf; ComponentLink3Description: https://datasheet.ciiva.com/2514/dcrcwe3-2514312.pdf; ComponentLink4URL: https://datasheet.ciiva.com/16204/dcrcwe3-16204264.pdf; ComponentLink4Description: https://datasheet.ciiva.com/16204/dcrcwe3-16204264.pdf; ComponentLink5URL: https://datasheet.ciiva.com/26314/fld-crcw-e3-data-en-26314584.pdf; ComponentLink5Description: https://datasheet.ciiva.com/26314/fld-crcw-e3-data-en-26314584.pdf; ComponentLink6URL: https://datasheet.ciiva.com/7777/1720486-7777577.pdf; ComponentLink6Description: https://datasheet.ciiva.com/7777/1720486-7777577.pdf; ComponentLink7URL: https://datasheet.ciiva.com/9006/dcrcwe3-9006477.pdf; ComponentLink7Description: https://datasheet.ciiva.com/9006/dcrcwe3-9006477.pdf; ComponentLink8URL: https://datasheet.ciiva.com/11809/0900766b80d98b26-11809181.pdf; ComponentLink8Description: https://datasheet.ciiva.com/11809/0900766b80d98b26-11809181.pdf; ComponentLink9URL: https://datasheet.ciiva.com/17178/dcrcwe3-17178445.pdf; ComponentLink9Description: https://datasheet.ciiva.com/17178/dcrcwe3-17178445.pdf; ComponentLink10URL: https://datasheet.ciiva.com/7777/1697337-7777406.pdf; ComponentLink10Description: https://datasheet.ciiva.com/7777/1697337-7777406.pdf; Supplier Part Number 1: 541-47.0KCCT-ND
footprint CRCW0805_VISHAY
pins: 1, 2

## CRCW080575R0FKEA
designator R?  Resistance: 75 Ohms  (hidden comment: CRCW080575R0FKEA)
Manufacturer: Vishay; Brand: Vishay / Dale; Tolerance: 1 %; Power Rating: 125 mW (1/8 W); Temperature Coefficient: 100 PPM / K; Voltage Rating: 150 V; Unit Weight: 0.000194 oz; Supplier 1: Digikey; Manufacturer Part Number: CRCW080575R0FKEA; Stock 1: 7205; Pricing 1: 1=0.1, 10=0.042, 25=0.0304, 50=0.0232, 100=0.017, 250=0.013, 500=0.0104, 1000=0.0077 (USD); Product Category: Thick Film Resistors - SMD; RoHS: Details; Case Code - in: 0805; Case Code - mm: 2012; Operating Temperature Range: - 55 C to + 155 C; Series: CRCW; Height: 0.45 mm; Length: 2 mm; Package / Case: 0805 (2012 metric); Packaging: Reel; Product: Thick Film Resistors SMD; Factory Pack Quantity: 5000; Termination Style: SMD/SMT; Width: 1.25 mm; ComponentLink1URL: https://datasheet.ciiva.com/2495/dcrcwe3-2495665.pdf; ComponentLink1Description: https://datasheet.ciiva.com/2495/dcrcwe3-2495665.pdf; ComponentLink2URL: https://datasheet.ciiva.com/2495/dcrcwe3-2495666.pdf; ComponentLink2Description: https://datasheet.ciiva.com/2495/dcrcwe3-2495666.pdf; ComponentLink3URL: https://datasheet.ciiva.com/2495/dcrcwe3-2495667.pdf; ComponentLink3Description: https://datasheet.ciiva.com/2495/dcrcwe3-2495667.pdf; ComponentLink4URL: https://datasheet.ciiva.com/7673/1697337-7673495.pdf; ComponentLink4Description: https://datasheet.ciiva.com/7673/1697337-7673495.pdf; ComponentLink5URL: https://datasheet.ciiva.com/26316/fld-crcw-e3-data-en-26316535.pdf; ComponentLink5Description: https://datasheet.ciiva.com/26316/fld-crcw-e3-data-en-26316535.pdf; ComponentLink6URL: https://datasheet.ciiva.com/7673/1697337-7673369.pdf; ComponentLink6Description: https://datasheet.ciiva.com/7673/1697337-7673369.pdf; ComponentLink7URL: https://datasheet.ciiva.com/11811/0900766b80d98b26-11811307.pdf; ComponentLink7Description: https://datasheet.ciiva.com/11811/0900766b80d98b26-11811307.pdf; ComponentLink8URL: https://datasheet.ciiva.com/16763/70201119-16763292.pdf; ComponentLink8Description: https://datasheet.ciiva.com/16763/70201119-16763292.pdf; ComponentLink9URL: https://datasheet.ciiva.com/5542/dcrcwe3-109170-5542910.pdf; ComponentLink9Description: https://datasheet.ciiva.com/5542/dcrcwe3-109170-5542910.pdf; Supplier Part Number 1: 541-75.0CCT-ND
footprint CRCW0805_VISHAY
pins: 1, 2

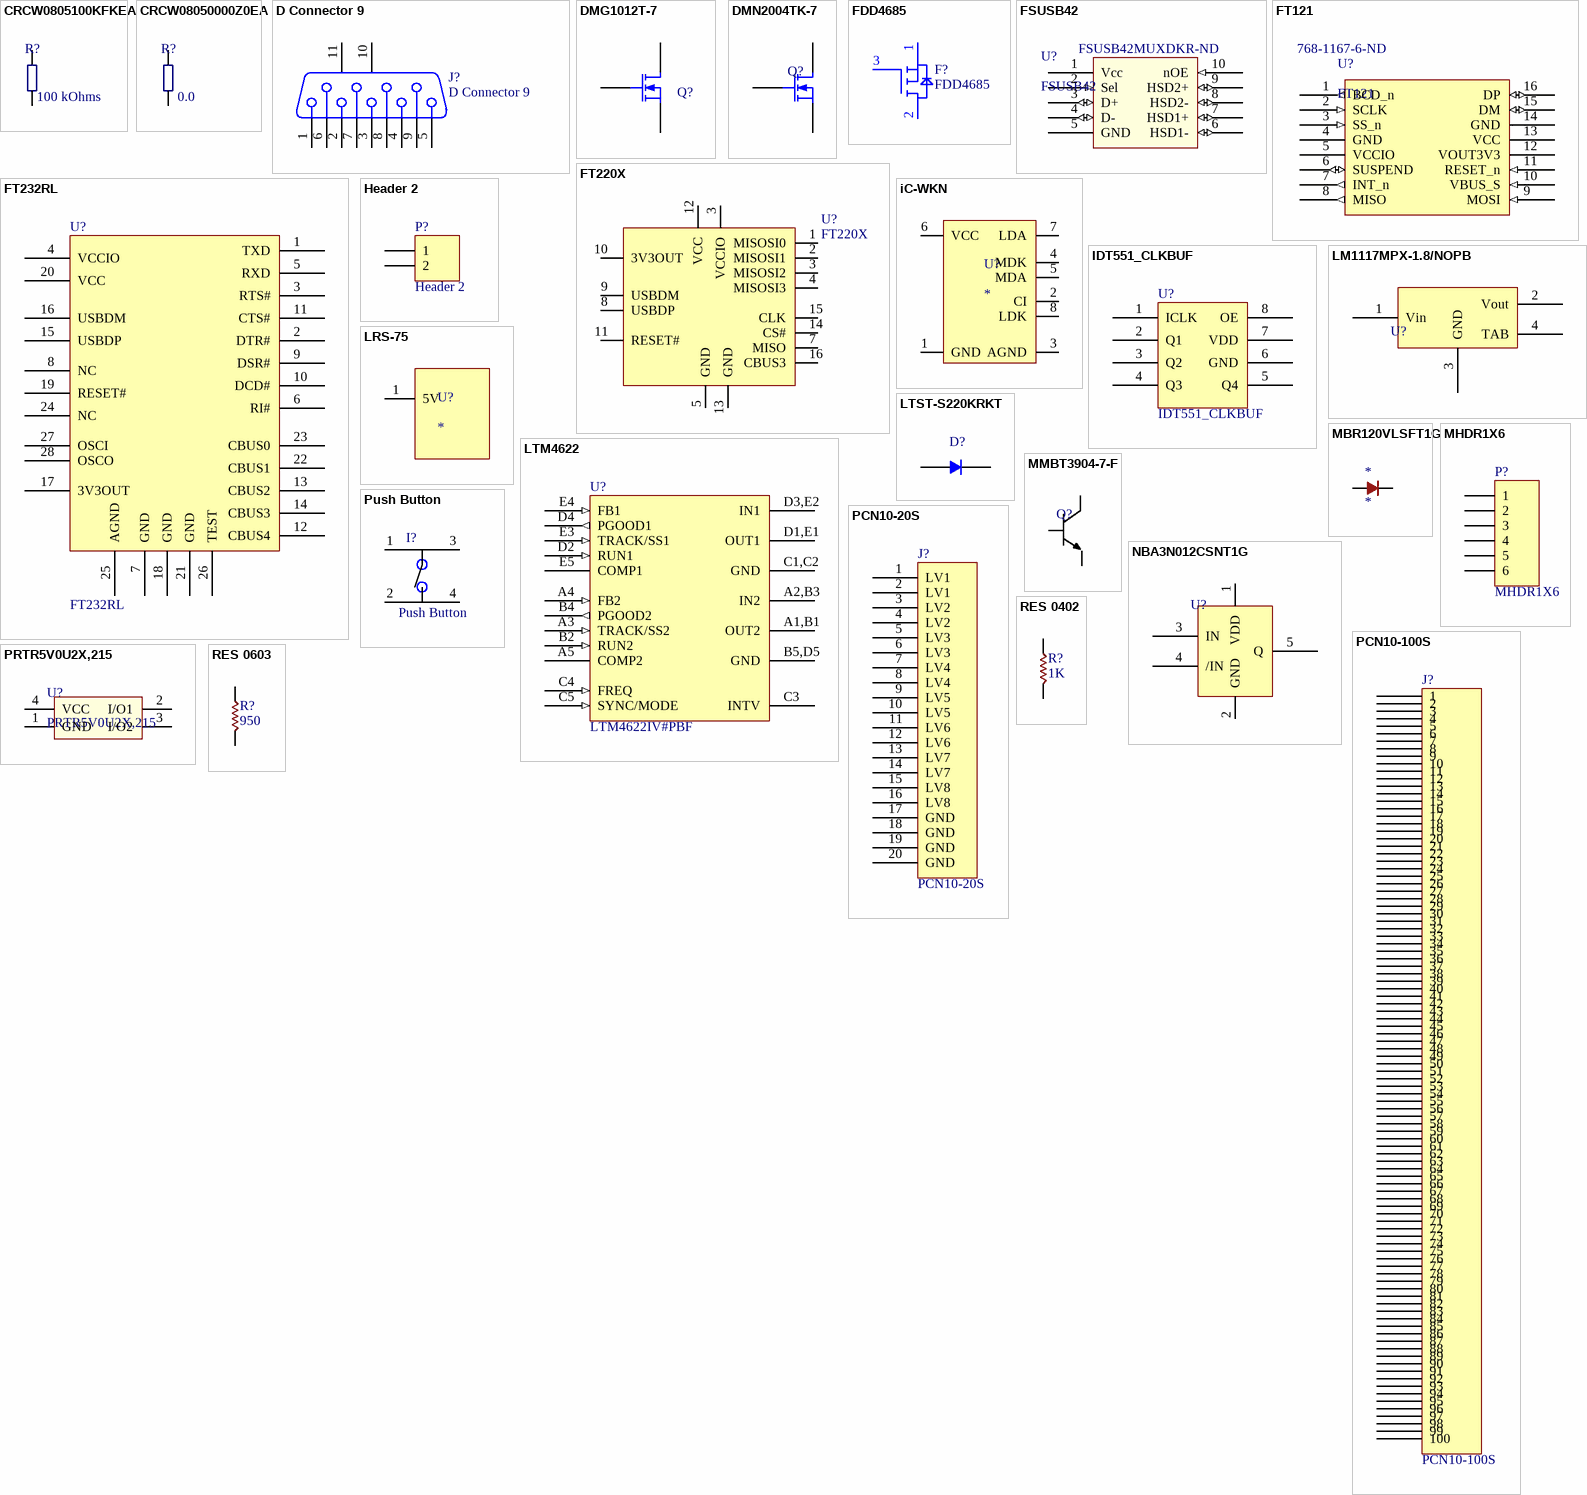
[diagram p1: symbols CRCW0805100KFKEA to RES 0603]

## CRCW0805100KFKEA
designator R?  Resistance: 100 kOhms  (hidden comment: CRCW0805100KFKEA)
Manufacturer: Vishay; Brand: Vishay / Dale; Tolerance: 1 %; Power Rating: 125 mW (1/8 W); Temperature Coefficient: 100 PPM / K; Voltage Rating: 150 V; Unit Weight: 0.000194 oz; Supplier 1: Digikey; Manufacturer Part Number: CRCW0805100KFKEA; Stock 1: 147880; Pricing 1: 1=0.1, 10=0.042, 25=0.0304, 50=0.0232, 100=0.017, 250=0.013, 500=0.0104, 1000=0.0077 (USD); Product Category: Thick Film Resistors - SMD; RoHS: Details; Case Code - in: 0805; Case Code - mm: 2012; Operating Temperature Range: - 55 C to + 155 C; Series: CRCW; Height: 0.45 mm; Length: 2 mm; Package / Case: 0805 (2012 metric); Packaging: Reel; Product: Thick Film Resistors SMD; Factory Pack Quantity: 5000; Termination Style: SMD/SMT; Width: 1.25 mm; ComponentLink1URL: https://datasheet.ciiva.com/11809/0900766b80d98b26-11809057.pdf; ComponentLink1Description: https://datasheet.ciiva.com/11809/0900766b80d98b26-11809057.pdf; ComponentLink2URL: https://datasheet.ciiva.com/7777/1697337-7777349.pdf; ComponentLink2Description: https://datasheet.ciiva.com/7777/1697337-7777349.pdf; ComponentLink3URL: https://datasheet.ciiva.com/3258/dcrcwe3-3258006.pdf; ComponentLink3Description: https://datasheet.ciiva.com/3258/dcrcwe3-3258006.pdf; ComponentLink4URL: https://datasheet.ciiva.com/16754/70201119-16754822.pdf; ComponentLink4Description: https://datasheet.ciiva.com/16754/70201119-16754822.pdf; ComponentLink5URL: https://datasheet.ciiva.com/8337/dcrcwe3-8337738.pdf; ComponentLink5Description: https://datasheet.ciiva.com/8337/dcrcwe3-8337738.pdf; ComponentLink6URL: https://datasheet.ciiva.com/16341/dcrcwe3-16341530.pdf; ComponentLink6Description: https://datasheet.ciiva.com/16341/dcrcwe3-16341530.pdf; ComponentLink7URL: https://datasheet.ciiva.com/16852/dcrcwe3-16852810.pdf; ComponentLink7Description: https://datasheet.ciiva.com/16852/dcrcwe3-16852810.pdf; ComponentLink8URL: https://datasheet.ciiva.com/16720/70201119-16720891.pdf; ComponentLink8Description: https://datasheet.ciiva.com/16720/70201119-16720891.pdf; ComponentLink9URL: https://datasheet.ciiva.com/7777/1720486-7777565.pdf; ComponentLink9Description: https://datasheet.ciiva.com/7777/1720486-7777565.pdf; Supplier Part Number 1: 541-100KCCT-ND
footprint CRCW0805_VISHAY
pins: 1, 2

## CRCW08050000Z0EA
designator R?  Resistance (Ohms): 0.0  (hidden comment: *)
Manufacturer: Vishay; Manufacturer Part Number: CRCW08050000Z0EA; EDA / CAD Models: Download from Accelerated Designs; Tolerance: Jumper; Power (Watts): 0.125W, 1/8W; Online Catalog: CRCW - Automotive Series; Kits: 541-1420-ND  - RESISTOR KIT 0-1M 1/8W 6100PCS; Other Names: 541-0.0ACT; Supplier 1: Digikey; Stock 1: 1015935; Pricing 1: 1=0.1, 10=0.026, 25=0.0184, 50=0.014, 100=0.0104, 250=0.0079, 500=0.0063, 1000=0.0047 (USD); Standard Package: 1; Category: Resistors; Family: Chip Resistor - Surface Mount; Series: CRCW; Packaging: Cut Tape (CT); Composition: Thick Film; Features: Automotive AEC-Q200; Temperature Coefficient: -; Operating Temperature: -55°C ~ 155°C; Package / Case: 0805 (2012 Metric); Supplier Device Package: 0805 (2012 Metric); Size / Dimension: 0.079" L x 0.049" W (2.00mm x 1.25mm); Height: 0.020" (0.50mm); Number of Terminations: 2; ComponentLink1URL: https://datasheet.ciiva.com/16883/dcrcwe3-16883622.pdf; ComponentLink1Description: https://datasheet.ciiva.com/16883/dcrcwe3-16883622.pdf; ComponentLink2URL: https://datasheet.ciiva.com/26314/fld-crcw-e3-data-en-26314630.pdf; ComponentLink2Description: https://datasheet.ciiva.com/26314/fld-crcw-e3-data-en-26314630.pdf; ComponentLink3URL: https://datasheet.ciiva.com/5543/dcrcwe3-109170-5543096.pdf; ComponentLink3Description: https://datasheet.ciiva.com/5543/dcrcwe3-109170-5543096.pdf; ComponentLink4URL: https://datasheet.ciiva.com/11811/0900766b80d98b26-11811304.pdf; ComponentLink4Description: https://datasheet.ciiva.com/11811/0900766b80d98b26-11811304.pdf; ComponentLink5URL: https://datasheet.ciiva.com/16389/dcrcwe3-16389338.pdf; ComponentLink5Description: https://datasheet.ciiva.com/16389/dcrcwe3-16389338.pdf; ComponentLink6URL: https://datasheet.ciiva.com/16719/70201119-16719706.pdf; ComponentLink6Description: https://datasheet.ciiva.com/16719/70201119-16719706.pdf; ComponentLink7URL: https://datasheet.ciiva.com/2463/dcrcwe3-2463037.pdf; ComponentLink7Description: https://datasheet.ciiva.com/2463/dcrcwe3-2463037.pdf; ComponentLink8URL: https://datasheet.ciiva.com/7841/1697337-7841629.pdf; ComponentLink8Description: https://datasheet.ciiva.com/7841/1697337-7841629.pdf; ComponentLink9URL: https://datasheet.ciiva.com/2463/dcrcwe3-2463038.pdf; ComponentLink9Description: https://datasheet.ciiva.com/2463/dcrcwe3-2463038.pdf; ComponentLink10URL: https://datasheet.ciiva.com/2463/dcrcwe3-2463039.pdf; ComponentLink10Description: https://datasheet.ciiva.com/2463/dcrcwe3-2463039.pdf; ComponentLink11URL: https://datasheet.ciiva.com/7841/1720486-7841839.pdf; ComponentLink11Description: https://datasheet.ciiva.com/7841/1720486-7841839.pdf; Supplier Part Number 1: 541-0.0ACT-ND
footprint CRCW0805_VISHAY
pins: 1, 2

## D Connector 9
designator J?
Receptacle Assembly, 9 Position, Right Angle A-DS 09 A/KG-T2S; PackageDocument: O; Positions: 9; Published: 15-Jun-2001; LatestRevisionDate: 17-Jul-2002; LatestRevisionNote: Re-released for DXP Platform.; DatasheetDocument: 1-Sep-1999; PackageReference: 788750; Publisher: Altium Limited; Orientation: Right Angle; Gender: Receptacle
footprint DSUB1.385-2H9 (Connector; D Subminiature; 9 Position; Right Angle; Pitch 1.385 mm)
signal-integrity model Connector
pins: 1, 2, 3, 4, 5, 6, 7, 8, 9, 10 MH1, 11 MH2

## DMG1012T-7
designator Q?  (value not drawn)
N-Channel MOSFET; Manufacturer: Diodes; Drain-Source On Resistance-Max: 400 mO; Drain-to-Source Voltage [Vdss]: 20 V; Qg Gate Charge: 0.74 nC; Rated Power Dissipation: 280 mW; Published: 8-Jun-2000; LatestRevisionDate: 17-Jul-2002; LatestRevisionNote: Re-released for DXP Platform.; PackageVersion: 1995/1996; PackageReference: E3; Publisher: Altium Limited; PackageDescription: TO, Flat Index; 3 In-Line, Axial Leads; Body Dia. 4.6mm; Lead Dia. 0.5 mm (max); Supplier 1: Digikey; Manufacturer Part Number: DMG1012T-7; Stock 1: 327; Pricing 1: 1=0.33, 10=0.268, 100=0.1421, 500=0.0935, 1000=0.0636 (USD); Channel Type: N-Channel; ComponentLink1URL: https://datasheet.ciiva.com/934/ds31783-934512.pdf; ComponentLink1Description: https://datasheet.ciiva.com/934/ds31783-934512.pdf; ComponentLink2URL: https://datasheet.ciiva.com/4442/ds31783-44973-4442944.pdf; ComponentLink2Description: https://datasheet.ciiva.com/4442/ds31783-44973-4442944.pdf; ComponentLink3URL: https://datasheet.ciiva.com/11174/ds31783-11174965.pdf; ComponentLink3Description: https://datasheet.ciiva.com/11174/ds31783-11174965.pdf; ComponentLink4URL: https://datasheet.ciiva.com/17324/ds31783-17324010.pdf; ComponentLink4Description: https://datasheet.ciiva.com/17324/ds31783-17324010.pdf; ComponentLink5URL: https://datasheet.ciiva.com/6383/ds31783-6383803.pdf; ComponentLink5Description: https://datasheet.ciiva.com/6383/ds31783-6383803.pdf; ComponentLink6URL: https://datasheet.ciiva.com/934/ds31783-934511.pdf; ComponentLink6Description: https://datasheet.ciiva.com/934/ds31783-934511.pdf; Supplier Part Number 1: DMG1012T-7DICT-ND
footprint E3 (TO, Flat Index; 3 In-Line, Axial Leads; Body Dia. 4.6mm; Lead Dia. 0.5 mm (max))
simulation model NMOS (MOSFET-N)
footprint SOT523
pins: 1 D, 2 G, 3 S

## DMN2004TK-7
designator Q?  (value not drawn)
N-Channel MOSFET; Manufacturer: Diodes; Type: Small Signal; Number of  Elements: 1; Polarity: N; Channel Mode: Enhancement; Drain-Source On-Res: 0.55Ohm; Drain-Source On-Volt: 20V; Gate-Source Voltage (Max): ±8V; Continuous Drain Current: 540mA; Power Dissipation: 150mW; Supplier 1: Digikey; Manufacturer Part Number: DMN2004TK-7; Stock 1: 1199; Pricing 1: 1=0.56, 10=0.453, 100=0.3082, 500=0.2311, 1000=0.1734 (USD); Operating Temp Range: -55C to 150C; Operating Temperature Classification: Military; Mounting: Surface Mount; Pin Count: 3; Package Type: SOT-523; Packaging: Tape and Reel; ComponentLink1URL: https://datasheet.ciiva.com/11174/ds30936-11174933.pdf; ComponentLink1Description: https://datasheet.ciiva.com/11174/ds30936-11174933.pdf; ComponentLink2URL: https://datasheet.ciiva.com/13045/ds30936-48697-13045897.pdf; ComponentLink2Description: https://datasheet.ciiva.com/13045/ds30936-48697-13045897.pdf; Supplier Part Number 1: DMN2004TK-7DICT-ND
footprint SOT523
pins: 1 D, 2 G, 3 S

## FDD4685
designator F?
footprint FDD4685
pins: 1 S, 2 D, 3 G

## FSUSB42
designator U?  Supplier Part Number 1: FSUSB42MUXDKR-ND
2 ports USB switch; Manufacturer: Fairchild Semiconductor; Manufacturer Part Number: FSUSB42MUX; Multiplexer Configuration: Single DPDT; Number of Inputs: 2; Number of Outputs: 4; Number of Channels: 1; Analog Switch ON Resistance: 6.5@3VOhm; Analog Switch Turn On Time: 13(Typ)@3.3Vns; Analog Switch Turn Off Time: 12(Typ)@3.3Vns; Power Supply Requirement: Single; Single Supply Voltage (Min): 3V; Single Supply Voltage (Max): 4.4V; Dual Supply Voltage (Min): Not RequiredV; Supplier 1: Digikey; Stock 1: 2789; Pricing 1: 1=0.62, 10=0.544, 100=0.4169, 500=0.3296, 1000=0.2637 (USD); Package Type: MSOP; Packaging: Tape and Reel; Dual Supply Voltage (Typ): Not RequiredV; Dual Supply Voltage (Max): Not RequiredV; Mounting: Surface Mount; Pin Count: 10; Operating Temp Range: -40C to 85C; Operating Temperature Classification: Industrial; ComponentLink1URL: https://datasheet.ciiva.com/26074/fsusb42-26074738.pdf; ComponentLink1Description: https://datasheet.ciiva.com/26074/fsusb42-26074738.pdf; ComponentLink2URL: https://datasheet.ciiva.com/3232/fsusb42-3232662.pdf; ComponentLink2Description: https://datasheet.ciiva.com/3232/fsusb42-3232662.pdf; ComponentLink3URL: https://datasheet.ciiva.com/3233/fsusb42-3233258.pdf; ComponentLink3Description: https://datasheet.ciiva.com/3233/fsusb42-3233258.pdf; ComponentLink4URL: https://datasheet.ciiva.com/1666/fsusb42-1666347.pdf; ComponentLink4Description: https://datasheet.ciiva.com/1666/fsusb42-1666347.pdf; ComponentLink5URL: https://datasheet.ciiva.com/1666/fsusb42-1666348.pdf; ComponentLink5Description: https://datasheet.ciiva.com/1666/fsusb42-1666348.pdf; ComponentLink6URL: https://datasheet.ciiva.com/1666/fsusb42-1666349.pdf; ComponentLink6Description: https://datasheet.ciiva.com/1666/fsusb42-1666349.pdf; ComponentLink7URL: https://datasheet.ciiva.com/4924/fsusb42-112719-4924269.pdf; ComponentLink7Description: https://datasheet.ciiva.com/4924/fsusb42-112719-4924269.pdf
footprint MSOP-10
pins: 1 Vcc (power), 2 Sel (in), 3 D+ (io), 4 D- (io), 5 GND (power), 6 HSD1- (io), 7 HSD1+ (io), 8 HSD2- (io), 9 HSD2+ (io), 10 nOE (in)

## FT121
designator U?  Supplier Part Number 1: 768-1167-6-ND
USB DEVICE CONTROLLER WITH SPI SLAVE IC; Manufacturer: Future Technology Devices International (FTDI); Manufacturer Part Number: FT121T-R; Speed: High-Speed; Data Rate: 480 Mb/s; Operating Supply Voltage: 4 V to 5.5 V; Operating Supply Current: 3.9 mA; Brand: FTDI; Interface Type: SPI, USB; Unit Weight: 0.006102 oz; Supplier 1: Digikey; Stock 1: 1589; Pricing 1: 1=2.22, 25=1.89, 100=1.73, 250=1.61, 500=1.5, 1000=1.48 (USD); Product Category: USB Interface IC; RoHS: True; Type: Peripheral Controller; Standard: USB 2.0; Maximum Operating Temperature: + 85 C; Mounting Style: SMD/SMT; Package / Case: TSSOP-16; Packaging: Reel; Minimum Operating Temperature: - 40 C; Product: USB Peripheral Controllers; Series: FT121; ComponentLink1URL: https://datasheet.ciiva.com/6636/ds-ft121-6636069.pdf; ComponentLink1Description: https://datasheet.ciiva.com/6636/ds-ft121-6636069.pdf; ComponentLink2URL: https://datasheet.ciiva.com/6636/ds-ft121-6636072.pdf; ComponentLink2Description: https://datasheet.ciiva.com/6636/ds-ft121-6636072.pdf; ComponentLink3URL: https://datasheet.ciiva.com/46407/1812676-46407692.pdf; ComponentLink3Description: https://datasheet.ciiva.com/46407/1812676-46407692.pdf
footprint TSSOP-16
pins: 1 BCD_n (out), 2 SCLK (in), 3 SS_n (in), 4 GND (power), 5 VCCIO (power), 6 SUSPEND (io), 7 INT_n (out), 8 MISO (out), 9 MOSI (in), 10 VBUS_S (in), 11 RESET_n (in), 12 VOUT3V3 (power), 13 VCC (power), 14 GND (power), 15 DM (io), 16 DP (io)

## FT220X
designator U?
footprint FT220X
pins: 1 MISOSI0, 2 MISOSI1, 3 MISOSI2, 3 VCCIO, 4 MISOSI3, 5 GND, 7 MISO, 8 USBDP, 9 USBDM, 10 3V3OUT, 11 RESET#, 12 VCC, 13 GND, 14 CS#, 15 CLK, 16 CBUS3

## FT232RL
designator U?
footprint FT232RL
pins: 1  TXD, 2 DTR#, 3 RTS#, 4 VCCIO, 5 RXD, 6 RI#, 7 GND, 8 NC, 9 DSR#, 10 DCD#, 11 CTS#, 12 CBUS4, 13 CBUS2, 14 CBUS3, 15 USBDP, 16 USBDM, 17 3V3OUT, 18 GND, 19 RESET#, 20 VCC, 21 GND, 22 CBUS1, 23 CBUS0, 24 NC, 25 AGND, 26 TEST, 27 OSCI, 28 OSCO

## Header 2
designator P?
Header, 2-Pin; LatestRevisionDate: 17-Jul-2002; LatestRevisionNote: Re-released for DXP Platform.; Publisher: Altium Limited
footprint HDR1X2 (Connector; Header; 2 Position)
signal-integrity model Connector
pins: 1, 2

## iC-WKN
designator U?
footprint SOIC8tp
pins: 1 GND, 2 CI, 3 AGND, 4 MDK, 5 MDA, 6 VCC, 7 LDA, 8 LDK, 9

## IDT551_CLKBUF
designator U?
footprint IDT551
pins: 1 ICLK, 2 Q1, 3 Q2, 4 Q3, 5 Q4, 6 GND, 7 VDD, 8 OE